# Altium footprint library 5019.PcbLib: 1 footprints
Each footprint in its own frame and in the unit in brackets; x right, y up, seen from the top. Pads: shape width x height; smd on the part's side, far side on the other; paste and mask are expansions set on the pad; w line width, h text height; cw(c..) or ccw(c..) is an arc to the next point about the centre after c.
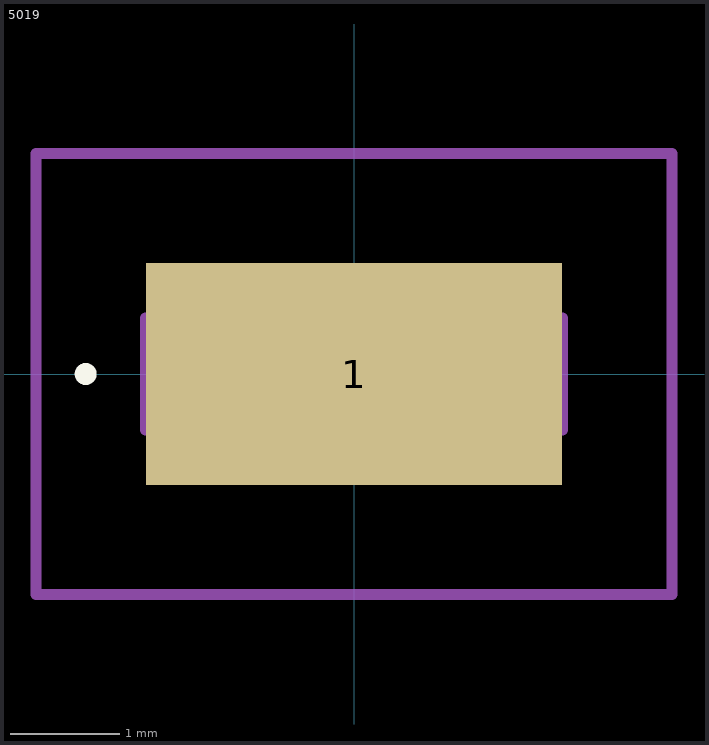
[diagram p0: the footprint, top view; thin cyan lines are the x and y axes]

## 5019 [mm]
pads (1):
  rect 3.8x2.03 smd: 1(0,0)
Top Overlay:
  lines w0.1: -2.5,0 cw(c-2.45,0) -2.4,0 ; -2.5,0 -2.5,0 ; -2.5,0 ccw(c-2.45,0) -2.4,0 ; -2.4,0 -2.4,0
Mechanical 15:
  lines w0.1: -1.905,-0.51 1.905,-0.51 1.905,0.51 -1.905,0.51 -1.905,-0.51
Mechanical 20:
  lines w0.1: -2.905,-2.015 2.905,-2.015 2.905,2.015 -2.905,2.015 -2.905,-2.015